# Altium footprint library PCB - SWITCH - C&K PCM12SMTR.PCBLIB: 1 footprints
Each footprint in its own frame and in the unit in brackets; x right, y up, seen from the top. Pads: shape width x height; smd on the part's side, far side on the other; paste and mask are expansions set on the pad; w line width, h text height; cw(c..) or ccw(c..) is an arc to the next point about the centre after c.
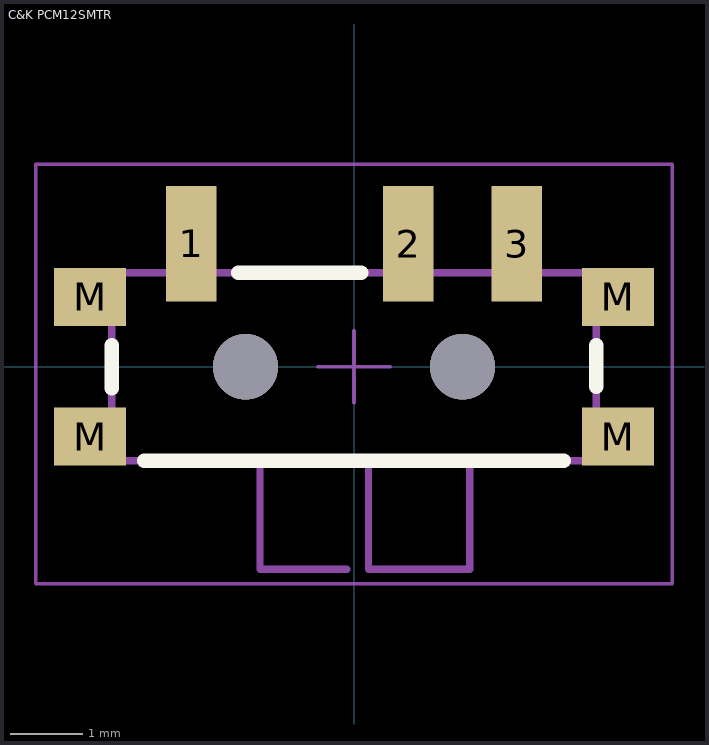
[diagram p0: the footprint, top view; thin cyan lines are the x and y axes]

## C&K PCM12SMTR [mm] "PCM12SMTR SPDT Switch"
height 1.4
pads (7):
  rect 0.7x1.6 smd: 1(-2.25,1.7) 2(0.75,1.7) 3(2.25,1.7)
  rect 1x0.8 smd: M(-3.65,-0.965) M(-3.65,0.965) M(3.65,-0.965) M(3.65,0.965)
via 1.5,0 diameter 0.9 hole 0.9
via -1.5,0 diameter 0.9 hole 0.9
Top Overlay:
  lines w0.2: -3.35,-0.3 -3.35,0.3 ; -2.9,-1.3 2.9,-1.3 ; -1.6,1.3 0.1,1.3 ; 3.35,-0.275 3.35,0.3
Mechanical 13:
  lines w0.1: -1.3,-1.3 -1.3,-2.8 -0.1,-2.8 ; 0.2,-1.3 0.2,-2.8 1.6,-2.8 1.6,-1.3 ; -3.35,-1.3 3.35,-1.3 3.35,1.3 -3.35,1.3 -3.35,-1.3
Mechanical 15:
  lines w0.05: -0.5,0 0.5,0 ; 0,-0.5 0,0.5 ; -4.4,-3 4.4,-3 4.4,2.8 -4.4,2.8 -4.4,-3
3D body "C_K - PCM12SMTR.step": height 1.4, standoff -0.5, extent -3.85,-2.772 3.85,2.228